# EAGLE library part ISO7221 (library FSAE Electric)
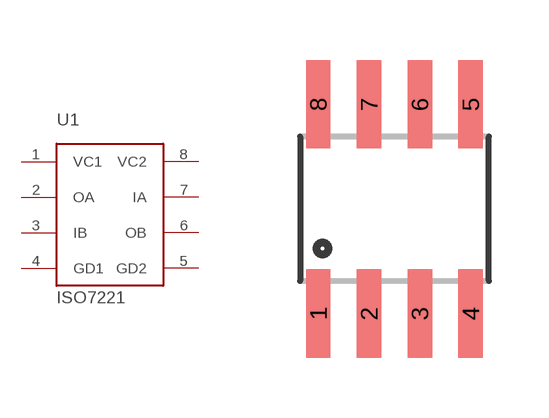
[diagram p73: symbol with the pads of SO-8; footprint SO-8]

Designator prefix U1

## ISO7221 (PARTNO: ISO7221ADR)  [SO-8]
1  VC1
2  OA
3  IB
4  GD1
5  GD2
6  OB
7  IA
8  VC2

## Footprint SO-8 (pad centres in mm)
smd 0.61 x 2.21: 1 -1.905,-2.616; 2 -0.635,-2.616; 3 0.635,-2.616; 4 1.905,-2.616; 5 1.905,2.616; 6 0.635,2.616; 7 -0.635,2.616; 8 -1.905,2.616